# Altium schematic symbol library FK750M4-XBH6.SchLib: 1 symbol
Pins are listed as number, name and electrical type; pins without a type are passive.

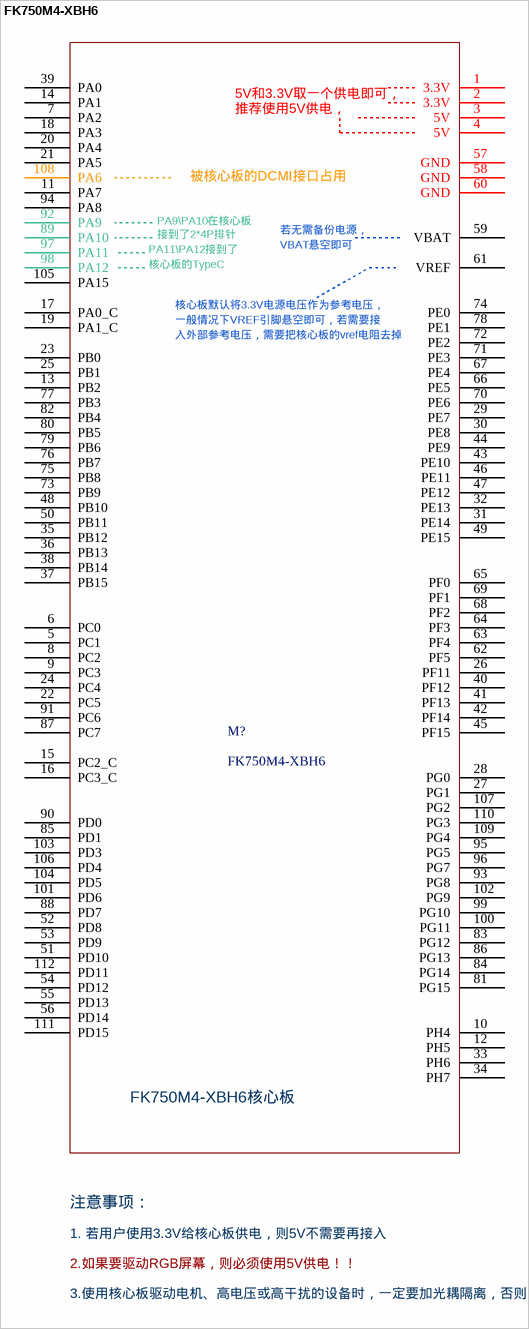
[diagram p0: symbol FK750M4-XBH6]

## FK750M4-XBH6
designator M?
footprint FK750M4-XBH6
pins: 1 3.3V, 2 3.3V, 3 5V, 4 5V, 5 PC1, 6 PC0, 7 PA2, 8 PC2, 9 PC3, 10 PH4, 11 PA7, 12 PH5, 13 PB2, 14 PA1, 15 PC2_C, 16 PC3_C, 17 PA0_C, 18 PA3, 19 PA1_C, 20 PA4, 21 PA5, 22 PC5, 23 PB0, 24 PC4, 25 PB1, 26 PF11, 27 PG1, 28 PG0, 29 PE7, 30 PE8, 31 PE14, 32 PE13, 33 PH6, 34 PH7, 35 PB12, 36 PB13, 37 PB15, 38 PB14, 39 PA0, 40 PF12, 41 PF13, 42 PF14, 43 PE10, 44 PE9, 45 PF15, 46 PE11, 47 PE12, 48 PB10, 49 PE15, 50 PB11, 51 PD10, 52 PD8, 53 PD9, 54 PD12, 55 PD13, 56 PD14, 57 GND, 58 GND, 59 VBAT, 60 GND, 61 VREF, 62 PF5, 63 PF4, 64 PF3, 65 PF0, 66 PE5, 67 PE4, 68 PF2, 69 PF1, 70 PE6, 71 PE3, 72 PE2, 73 PB9, 74 PE0, 75 PB8, 76 PB7, 77 PB3, 78 PE1, 79 PB6, 80 PB5, 81 PG15, 82 PB4, 83 PG12, 84 PG14, 85 PD1, 86 PG13, 87 PC7, 88 PD7, 89 PA10, 90 PD0, 91 PC6, 92 PA9, 93 PG8, 94 PA8, 95 PG5, 96 PG7, 97 PA11, 98 PA12, 99 PG10, 100 PG11, 101 PD6, 102 PG9, 103 PD3, 104 PD5, 105 PA15, 106 PD4, 107 PG2, 108 PA6, 109 PG4, 110 PG3, 111 PD15, 112 PD11
text: 5V和3.3V取一个供电即可，; 推荐使用5V供电，; 被核心板的DCMI接口占用; PA9\PA10在核心板; 若无需备份电源，; 接到了2*4P排针; VBAT悬空即可; PA11\PA12接到了; 核心板的TypeC; 核心板默认将3.3V电源电压作为参考电压，; 一般情况下VREF引脚悬空即可，若需要接; 入外部参考电压，需要把核心板的vref电阻去掉; FK750M4-XBH6核心板; 注意事项：; 1. 若用户使用3.3V给核心板供电，则5V不需要再接入; 2.如果要驱动RGB屏幕，则必须使用5V供电！！; 3.使用核心板驱动电机、高电压或高干扰的设备时，一定要加光耦隔离，否则很容易损坏单片机！！！